# Altium schematic symbol library Schlib1.SchLib: 5 symbols
Pins are listed as number, name and electrical type; pins without a type are passive.

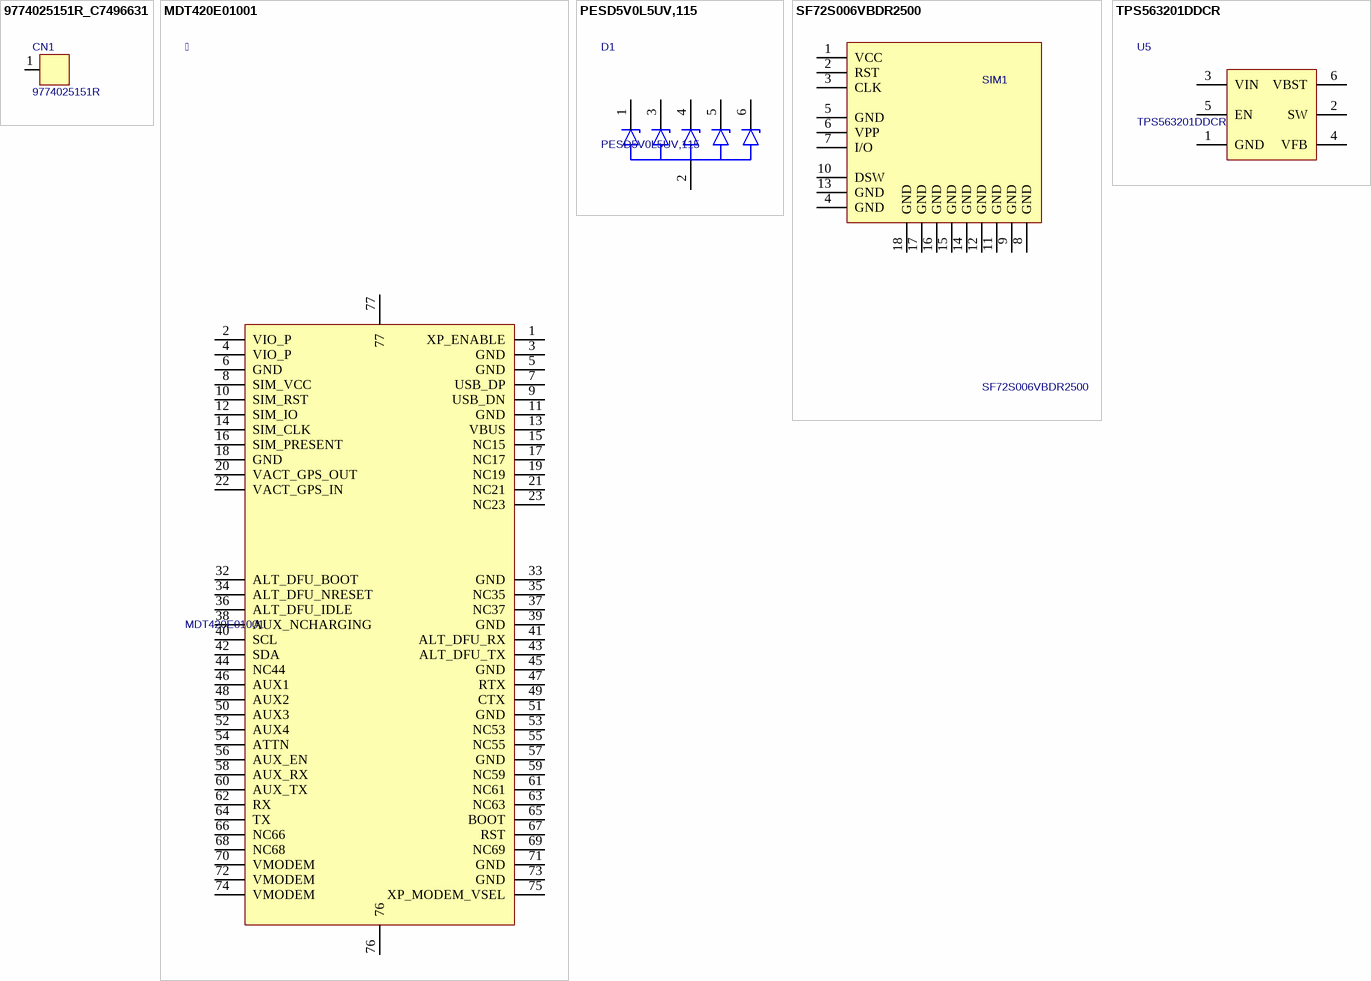
[diagram p0: symbols 9774025151R_C7496631 to TPS563201DDCR]

## 9774025151R_C7496631
designator CN1, comment 9774025151R
Part Number: C7496631; Manufacturer: Wurth(伍尔特); Symbol: 9774025151R_C7496631; AddInBom: yes; Device: 9774025151R_C7496631; LCSC Part Name: SMT钢质间隔柱，带内螺纹; ManufacturerPart: 9774025151R; Supplier Footprint: SMD; JLCPCB Part Class: Extended Part; Datasheet: https://www.we-online.com/components/products/datasheet/9774025151R.pdf; Supplier: LCSC; ConvertToPcb: yes; FootprintName: SMD-1_BD5.1-D3.5
pins: 1

## MDT420E01001
designator 
Pitch:0.5mm Number of Pins:67P Mounting Type:Surface Mount, Right Angle Contact Material:Copper Alloy Contact Plating:Gold Operating Temperature:-40℃~+80℃ Operating Temperature:-40℃~+80℃; Manufacturer: Amphenol; AddInBom: yes; ModelId: e7e3dc45d4774ef5a0346ca1df8579fbÂŽ0819f05c4eef4c71ace90d822a990e87; ModelName: CONN-SMD_67P-P0.50_TE_2199119-6; ModelTransform: 862.203,342.51896,0,0,0,0,0,0,-21.6535; Pitch: 0.5mm; Symbol: MDT420E01001; Device: MDT420E01001; LCSC Part Name: 0.5mm P数:67P; SupplierPart: C4529147; ManufacturerPart: MDT420E01001; Supplier Footprint: SMD,P=0.5mm,卧贴; JLCPCB Part Class: Extended Part; Datasheet: https://item.szlcsc.com/datasheet/MDT420E01001/5100227.html; Supplier: LCSC; ConvertToPcb: yes; FootprintName: CONN-SMD_67P-P0.50_TE_2199119-6; Number of Pins: 67P; Mounting Type: Surface Mount, Right Angle; Contact Material: Copper Alloy; Contact Plating: Gold; Operating Temperature: -40℃~+80℃
footprint CONN-SMD_67P-P0.50_TE_2199119-6
pins: 1 XP_ENABLE, 2 VIO_P, 3 GND, 4 VIO_P, 5 GND, 6 GND, 7 USB_DP, 8 SIM_VCC, 9 USB_DN, 10 SIM_RST, 11 GND, 12 SIM_IO, 13 VBUS, 14 SIM_CLK, 15 NC15, 16 SIM_PRESENT, 17 NC17, 18 GND, 19 NC19, 20 VACT_GPS_OUT, 21 NC21, 22 VACT_GPS_IN, 23 NC23, 32 ALT_DFU_BOOT, 33 GND, 34 ALT_DFU_NRESET, 35 NC35, 36 ALT_DFU_IDLE, 37 NC37, 38 AUX_NCHARGING, 39 GND, 40 SCL, 41 ALT_DFU_RX, 42 SDA, 43 ALT_DFU_TX, 44 NC44, 45 GND, 46 AUX1, 47 RTX, 48 AUX2, 49 CTX, 50 AUX3, 51 GND, 52 AUX4, 53 NC53, 54 ATTN, 55 NC55, 56 AUX_EN, 57 GND, 58 AUX_RX, 59 NC59, 60 AUX_TX, 61 NC61, 62 RX, 63 NC63, 64 TX, 65 BOOT, 66 NC66, 67 RST, 68 NC68, 69 NC69, 70 VMODEM, 71 GND, 72 VMODEM, 73 GND, 74 VMODEM, 75 XP_MODEM_VSEL, 76, 77

## PESD5V0L5UV,115
designator D1
Polarity:Unidirectional Reverse Stand-Off Voltage (Vrwm):5V Clamping Voltage:12V Peak Pulse Current (Ipp):2.5A Peak Pulse Power Dissipation (Ppp):25W Voltage - Breakdown:6.4V Reverse Leakage Current (Ir):5nA Number of Channels:5 Operating Temperature:-65℃; Manufacturer: Nexperia(安世); AddInBom: yes; ModelId: d819e0c908004c6d9ba8e512fd29870dÂŽ0819f05c4eef4c71ace90d822a990e87; ModelName: SOT-666-6P_L1.6-W1.2-H0.6-LS1.6-P0.50; ModelTransform: 62.992,62.992,0,0,0,0,0,-0.787,0; Reverse Stand-Off Voltage (Vrwm): 5V; Clamping Voltage: 12V; Peak Pulse Current (Ipp): 2.5A; Peak Pulse Power Dissipation (Ppp): 25W; Voltage - Breakdown: 6.4V; Reverse Leakage Current (Ir): 5nA; Number of Channels: 5; level of protection: IEC 61000-4-5；IEC 61000-4-2; Type: ESD; Junction Capacitance: 16pF; Symbol: PESD5V0L5UV,115; Device: PESD5V0L5UV,115; LCSC Part Name: 单向ESD 5V截止 峰值脉冲电流：2.5A; SupplierPart: C84255; ManufacturerPart: PESD5V0L5UV,115; Supplier Footprint: SOT-666-6; JLCPCB Part Class: Extended Part; Datasheet: https://item.szlcsc.com/datasheet/PESD5V0L5UV%252C115/85424.html; Supplier: LCSC; ConvertToPcb: yes; FootprintName: SOT-666-6_L1.6-W1.2-P0.50-LS1.6-TL; Polarity: Unidirectional; Operating Temperature: -65℃~+150℃@(Ta)
footprint SOT-666-6_L1.6-W1.2-P0.50-LS1.6-TL
pins: 1, 2, 3, 4, 5, 6

## SF72S006VBDR2500
designator SIM1
Card Connection Mode:Push-Push Card Type:Nano-SIM Card Connector Type:Connector and Ejector Height Above Board:1.25mm Rated Voltage (Max):10V Operating Temperature:-25℃~+85℃ Operating Temperature:-25℃~+85℃; Manufacturer: JAE(日本航空电子); AddInBom: yes; ModelId: 655216ee1d564b619435ec7217f45a29ÂŽ0819f05c4eef4c71ace90d822a990e87; ModelName: NANO-SIM-SMD_SMN-315-ARP7; ModelTransform: 440.944,569.036,0,0,0,0,-0.003,0.004,0; Rated Voltage (Max): 10V; Symbol: SF72S006VBDR2500; Device: SF72S006VBDR2500; LCSC Part Name: 自弹式 NanoSIM卡 卡座; SupplierPart: C2977286; ManufacturerPart: SF72S006VBDR2500; Supplier Footprint: SMD; JLCPCB Part Class: Extended Part; Datasheet: https://item.szlcsc.com/datasheet/SF72S006VBDR2500/3386692.html; Supplier: LCSC; ConvertToPcb: yes; FootprintName: NANO-SIM-SMD_SMN-315-ARP7; Card Connection Mode: Push-Push; Card Type: Nano-SIM Card; Connector Type: Connector and Ejector; Height Above Board: 1.25mm; Operating Temperature: -25℃~+85℃
footprint NANO-SIM-SMD_SMN-315-ARP7
pins: 1 VCC, 2 RST, 3 CLK, 4 GND, 5 GND, 6 VPP, 7 I/O, 8 GND, 9 GND, 10 DSW, 11 GND, 12 GND, 13 GND, 14 GND, 15 GND, 16 GND, 17 GND, 18 GND

## TPS563201DDCR
designator U5
Function:Step-down type Voltage - Supply:4.5V~17V Voltage - Supply:4.5V~17V Output Voltage:768mV~7V Output Voltage:768mV~7V Output Current:3A Frequency - Switching:580kHz Frequency - Switching:580kHz Operating Temperature:-40℃~+125℃@(TJ) Operating Tempera; Manufacturer: TI(德州仪器); AddInBom: yes; ModelId: 1370be37a17e44418ae52e2b4cc1f5e5ÂŽ0819f05c4eef4c71ace90d822a990e87; ModelName: SOT-23-6_L2.9-W1.6-H1.5-LS2.8-P0.95; ModelTransform: 110.73671,114.173,0,180,0,0,0.001,-0.003,0; Output Current: 3A; Frequency - Switching: 580kHz; Number of Outputs: 1; Topology: Buck; Quiescent Current: 380uA; Switch tube (built-in/external): Built-in; Output Type: Adjustable; Symbol: TPS563201DDCR; Device: TPS563201DDCR; LCSC Part Name: 降压型 3A 4.5V~17V; SupplierPart: C116592; ManufacturerPart: TPS563201DDCR; Supplier Footprint: SOT-23-THIN-6; JLCPCB Part Class: Extended Part; Datasheet: https://item.szlcsc.com/datasheet/TPS563201DDCR/117846.html; Supplier: LCSC; ConvertToPcb: yes; FootprintName: SOT-23-6_L2.9-W1.6-P0.95-LS2.8-BR; Function: Step-down type; Voltage - Supply: 4.5V~17V; Output Voltage: 768mV~7V; Operating Temperature: -40℃~+125℃@(TJ); Synchronous Rectifier: Yes; Features: Light load efficient mode；Cycle-by-cycle current limiting；Overcurrent Protection；Hiccup current limiting
footprint SOT-23-6_L2.9-W1.6-P0.95-LS2.8-BR
pins: 1 GND, 2 SW, 3 VIN, 4 VFB, 5 EN, 6 VBST